# EAGLE library part LED_RGB_PLCC6 (library microbuilder)
RGB LED Cree CLV6A-FKB - Digikey: CLV6A-FKB-CK1P1G1BB7R3R3TR-ND DC Foreward Current: 20mA Foreward Voltage: R = 2.0, G = 3.2, B = 3.2 Viewing Angle: 120°
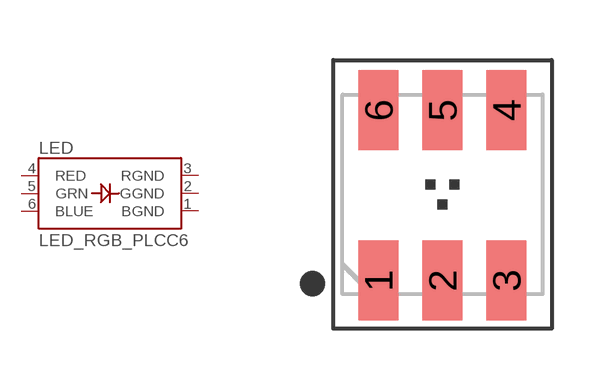
[diagram p27: symbol with the pads of RGBLED_PLCC6; footprint RGBLED_PLCC6]

Designator prefix LED

## LED_RGB_PLCC6CREE-CLV6A  [RGBLED_PLCC6]
1  BGND  pwr
2  GGND  pwr
3  RGND  pwr
4  RED
5  GRN
6  BLUE

## Footprint RGBLED_PLCC6 (pad centres in mm)
RGB LED PLCC-6 5.0mm x 5.0mm 1.5mm Pitch
smd 1 x 2: 1 -1.6,-2.158; 2 0,-2.158; 3 1.6,-2.158; 4 1.6,2.108; 5 0,2.108; 6 -1.6,2.108